# Altium footprint library MOLEX_1040310811.PcbLib: 1 footprints
Each footprint in its own frame and in the unit in brackets; x right, y up, seen from the top. Pads: shape width x height; smd on the part's side, far side on the other; paste and mask are expansions set on the pad; w line width, h text height; cw(c..) or ccw(c..) is an arc to the next point about the centre after c.
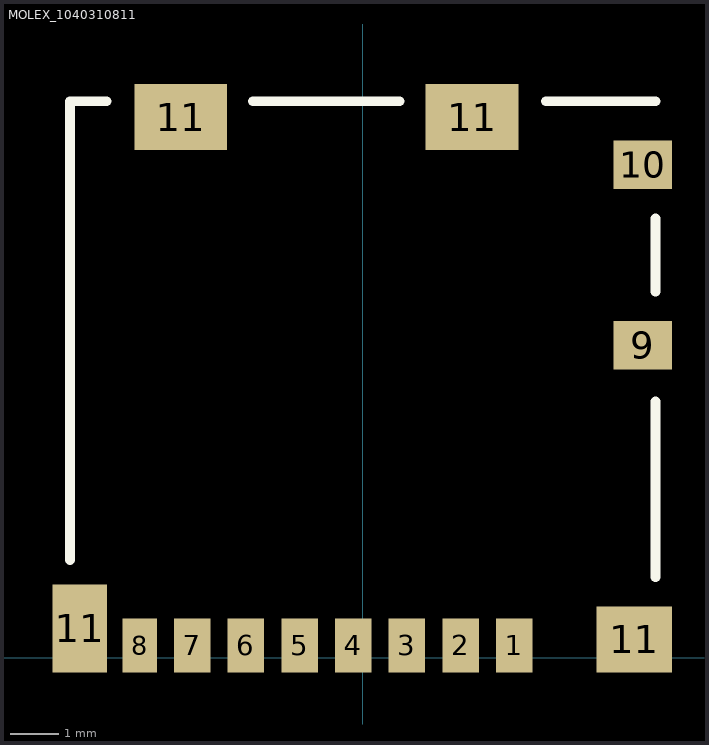
[diagram p0: the footprint, top view; thin cyan lines are the x and y axes]

## MOLEX_1040310811 [mm] "Molex uSD Card Socket"
pads (14):
  rect 0.75x1.1 smd mask+0.075: 1(3.105,0.25) 2(2.005,0.25) 3(0.905,0.25) 4(-0.195,0.25) 5(-1.295,0.25) 6(-2.395,0.25) 7(-3.495,0.25)
  rect 0.7x1.1 smd mask+0.075: 8(-4.57,0.25)
  rect 1.2x1 smd: 9(5.74,6.4) 10(5.74,10.1)
  rect 1.125x1.8 smd: 11(-5.8,0.6)
  rect 1.9x1.35 smd: 11(-3.73,11.075) 11(2.24,11.075)
  rect 1.55x1.35 smd: 11(5.565,0.375)
Top Overlay:
  lines w0.2: -6,2 -6,11.4 -5.25,11.4 ; -2.25,11.4 0.75,11.4 ; 3.75,11.4 6,11.4 ; 6,1.65 6,5.25 ; 6,7.5 6,9
3D body "MOLEX_1040310811.stp": height 1.43, standoff -0.02, extent -5.975,-0.012 5.975,11.388